# Altium integrated library Transformer(without-pin , 9v , 500mA , new trans).IntLib: 1 symbol
Pins are listed as number, name and electrical type; pins without a type are passive.

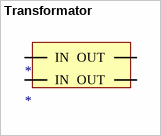
[diagram p0: symbol Transformator]

## Transformator
designator *
footprint Transformer(without-pin , 9v , 500mA , new trans)
pins: 1 IN, 2 IN, 3 OUT, 4 OUT